# EAGLE library part SAMTEC-TSW-148-07-X-S (library 1_22_SAMTEC-TSW-148-07-X-S)
Check prices <https://pricing.snapeda.com/parts/TSW-148-07-F-S/Samtec/view-part?ref=eda>
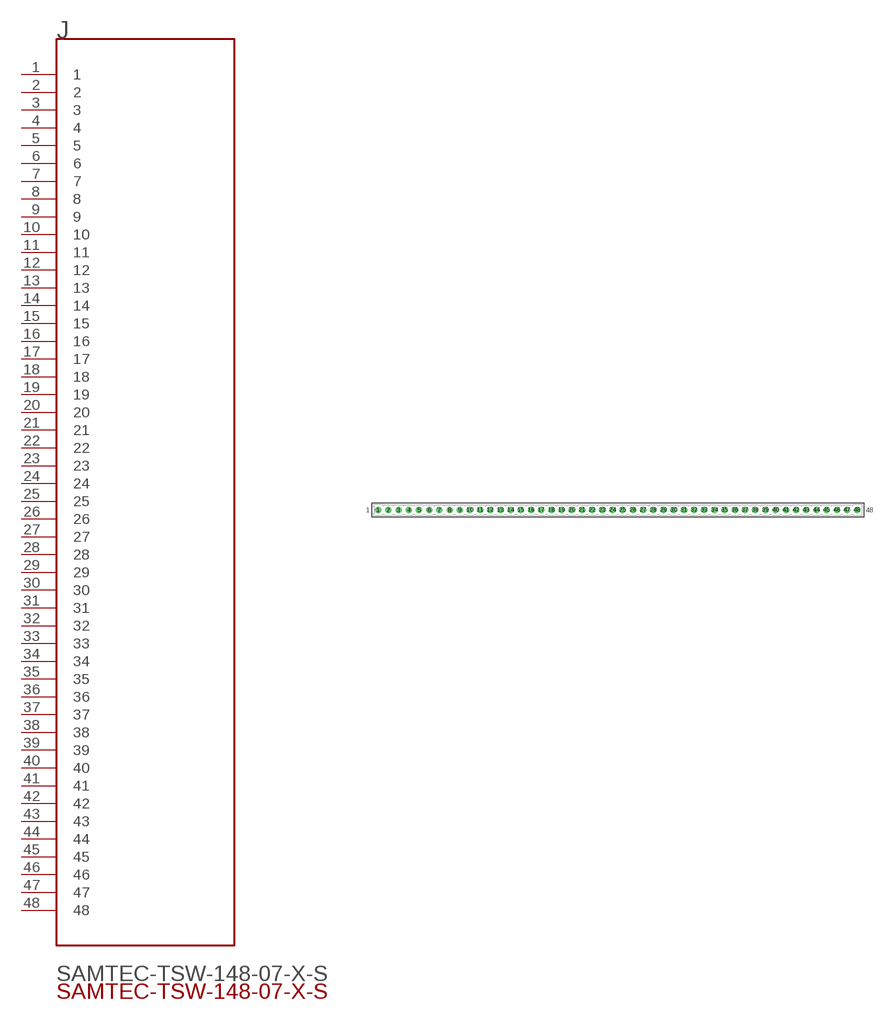
[diagram p0: symbol with the pads of SAMTEC-TSW-148-07-X-S; footprint SAMTEC-TSW-148-07-X-S]

Designator prefix J

## SAMTEC-TSW-148-07-X-SJ (Availability: Bad; Description: TSW Series .100 Terminal Strip; MF: Samtec; MP: TSW-148-07-F-S; Package: None; Price: None; Purchase-URL: https://pricing.snapeda.com/search/part/TSW-148-07-F-S/?ref=eda)  [SAMTEC-TSW-148-07-X-S]
1  1
2  2
3  3
4  4
5  5
6  6
7  7
8  8
9  9
10  10
11  11
12  12
13  13
14  14
15  15
16  16
17  17
18  18
19  19
20  20
21  21
22  22
23  23
24  24
25  25
26  26
27  27
28  28
29  29
30  30
31  31
32  32
33  33
34  34
35  35
36  36
37  37
38  38
39  39
40  40
41  41
42  42
43  43
44  44
45  45
46  46
47  47
48  48

## Footprint SAMTEC-TSW-148-07-X-S (pad centres in mm)
translated Allegro footprint
drill 1.02 pad 1.62: 1 -59.69,0; 2 -57.15,0; 3 -54.61,0; 4 -52.07,0; 5 -49.53,0; 6 -46.99,0; 7 -44.45,0; 8 -41.91,0; 9 -39.37,0; 10 -36.83,0; 11 -34.29,0; 12 -31.75,0; 13 -29.21,0; 14 -26.67,0; 15 -24.13,0; 16 -21.59,0; 17 -19.05,0; 18 -16.51,0; 19 -13.97,0; 20 -11.43,0; 21 -8.89,0; 22 -6.35,0; 23 -3.81,0; 24 -1.27,0; 25 1.27,0; 26 3.81,0; 27 6.35,0; 28 8.89,0; 29 11.43,0; 30 13.97,0; 31 16.51,0; 32 19.05,0; 33 21.59,0; 34 24.13,0; 35 26.67,0; 36 29.21,0; 37 31.75,0; 38 34.29,0; 39 36.83,0; 40 39.37,0; 41 41.91,0; 42 44.45,0; 43 46.99,0; 44 49.53,0; 45 52.07,0; 46 54.61,0; 47 57.15,0; 48 59.69,0